# EAGLE library part PIC18F6*J60 (library microchip)
64pin PIC18 with Ethernet
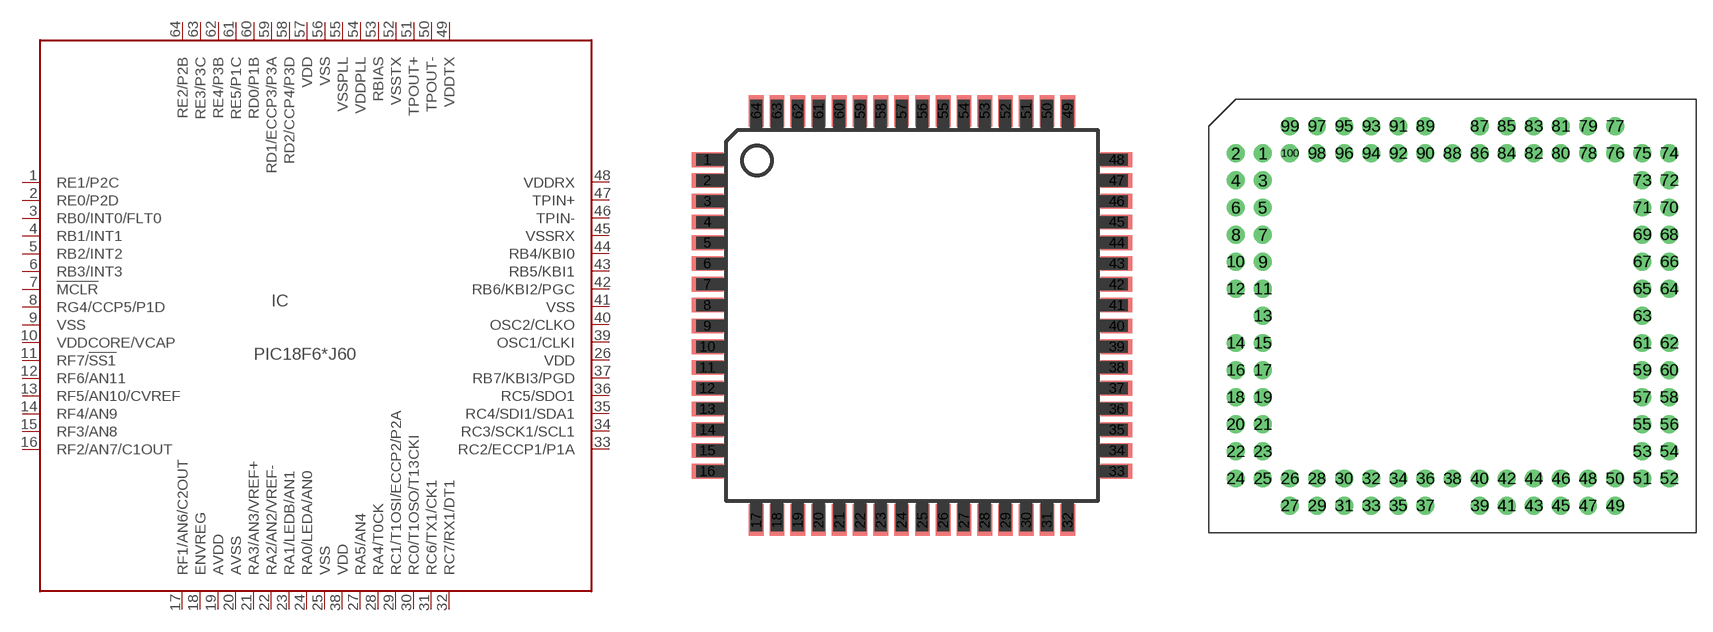
[diagram p25: symbol with the pads of TQFP64; footprints TQFP64, ICB-020]

Designator prefix IC

## PIC18F66J60TQFP, PIC18F67J60TQFP  [TQFP64]
1  RE1/P2C
2  RE0/P2D
3  RB0/INT0/FLT0
4  RB1/INT1
5  RB2/INT2
6  RB3/INT3
7  !MCLR  in
8  RG4/CCP5/P1D
9  VSS  pwr
10  VDDCORE/VCAP  pwr
11  RF7/!SS1
12  RF6/AN11
13  RF5/AN10/CVREF
14  RF4/AN9
15  RF3/AN8
16  RF2/AN7/C1OUT
17  RF1/AN6/C2OUT
18  ENVREG  in
19  AVDD  pwr
20  AVSS  pwr
21  RA3/AN3/VREF+
22  RA2/AN2/VREF-
23  RA1/LEDB/AN1
24  RA0/LEDA/AN0
25  VSS  pwr
26  VDD  pwr
27  RA5/AN4
28  RA4/T0CK
29  RC1/T1OSI/ECCP2/P2A
30  RC0/T1OSO/T13CKI
31  RC6/TX1/CK1
32  RC7/RX1/DT1
33  RC2/ECCP1/P1A
34  RC3/SCK1/SCL1
35  RC4/SDI1/SDA1
36  RC5/SDO1
37  RB7/KBI3/PGD
38  VDD  pwr
39  OSC1/CLKI  in
40  OSC2/CLKO  out
41  VSS  pwr
42  RB6/KBI2/PGC
43  RB5/KBI1
44  RB4/KBI0
45  VSSRX
46  TPIN-
47  TPIN+
48  VDDRX
49  VDDTX
50  TPOUT-
51  TPOUT+
52  VSSTX
53  RBIAS
54  VDDPLL
55  VSSPLL
56  VSS  pwr
57  VDD  pwr
58  RD2/CCP4/P3D
59  RD1/ECCP3/P3A
60  RD0/P1B
61  RE5/P1C
62  RE4/P3B
63  RE3/P3C
64  RE2/P2B

## PIC18F66J60ICB20, PIC18F67J60ICB20  [ICB-020]
6  RE1/P2C
7  RE0/P2D
8  RB0/INT0/FLT0
9  RB1/INT1
10  RB2/INT2
11  RB3/INT3
12  !MCLR  in
13  RG4/CCP5/P1D
14  VSS  pwr
15  VDDCORE/VCAP  pwr
16  RF7/!SS1
17  RF6/AN11
18  RF5/AN10/CVREF
19  RF4/AN9
20  RF3/AN8
21  RF2/AN7/C1OUT
31  RF1/AN6/C2OUT
32  ENVREG  in
33  AVDD  pwr
34  AVSS  pwr
35  RA3/AN3/VREF+
36  RA2/AN2/VREF-
37  RA1/LEDB/AN1
38  RA0/LEDA/AN0
39  VSS  pwr
40  VDD  pwr
41  RA5/AN4
42  RA4/T0CK
43  RC1/T1OSI/ECCP2/P2A
44  RC0/T1OSO/T13CKI
45  RC6/TX1/CK1
46  RC7/RX1/DT1
55  RC2/ECCP1/P1A
56  RC3/SCK1/SCL1
57  RC4/SDI1/SDA1
58  RC5/SDO1
59  RB7/KBI3/PGD
60  VDD  pwr
61  OSC1/CLKI  in
62  OSC2/CLKO  out
63  VSS  pwr
64  RB6/KBI2/PGC
65  RB5/KBI1
66  RB4/KBI0
67  VSSRX
68  TPIN-
69  TPIN+
70  VDDRX
80  VDDTX
81  TPOUT-
82  TPOUT+
83  VSSTX
84  RBIAS
85  VDDPLL
86  VSSPLL
87  VSS  pwr
88  VDD  pwr
89  RD2/CCP4/P3D
90  RD1/ECCP3/P3A
91  RD0/P1B
92  RE5/P1C
93  RE4/P3B
94  RE3/P3C
95  RE2/P2B

## PIC18F6J60ICB64  [ICB-020-64]
1  RE1/P2C
2  RE0/P2D
3  RB0/INT0/FLT0
4  RB1/INT1
5  RB2/INT2
6  RB3/INT3
7  !MCLR  in
8  RG4/CCP5/P1D
9  VSS  pwr
10  VDDCORE/VCAP  pwr
11  RF7/!SS1
12  RF6/AN11
13  RF5/AN10/CVREF
14  RF4/AN9
15  RF3/AN8
16  RF2/AN7/C1OUT
17  RF1/AN6/C2OUT
18  ENVREG  in
19  AVDD  pwr
20  AVSS  pwr
21  RA3/AN3/VREF+
22  RA2/AN2/VREF-
23  RA1/LEDB/AN1
24  RA0/LEDA/AN0
25  VSS  pwr
26  VDD  pwr
27  RA5/AN4
28  RA4/T0CK
29  RC1/T1OSI/ECCP2/P2A
30  RC0/T1OSO/T13CKI
31  RC6/TX1/CK1
32  RC7/RX1/DT1
33  RC2/ECCP1/P1A
34  RC3/SCK1/SCL1
35  RC4/SDI1/SDA1
36  RC5/SDO1
37  RB7/KBI3/PGD
38  VDD  pwr
39  OSC1/CLKI  in
40  OSC2/CLKO  out
41  VSS  pwr
42  RB6/KBI2/PGC
43  RB5/KBI1
44  RB4/KBI0
45  VSSRX
46  TPIN-
47  TPIN+
48  VDDRX
49  VDDTX
50  TPOUT-
51  TPOUT+
52  VSSTX
53  RBIAS
54  VDDPLL
55  VSSPLL
56  VSS  pwr
57  VDD  pwr
58  RD2/CCP4/P3D
59  RD1/ECCP3/P3A
60  RD0/P1B
61  RE5/P1C
62  RE4/P3B
63  RE3/P3C
64  RE2/P2B

## Footprint TQFP64 (pad centres in mm)
Thin Quad Flat Pack
smd 1.194 x 0.559: 1 -7.76,5.905; 2 -7.76,5.118; 3 -7.76,4.331; 4 -7.76,3.543; 5 -7.76,2.756; 6 -7.76,1.968; 7 -7.76,1.181; 8 -7.76,0.394; 9 -7.76,-0.394; 10 -7.76,-1.181; 11 -7.76,-1.968; 12 -7.76,-2.756; 13 -7.76,-3.543; 14 -7.76,-4.331; 15 -7.76,-5.118; 16 -7.76,-5.905; 33 7.76,-5.905; 34 7.76,-5.118; 35 7.76,-4.331; 36 7.76,-3.543; 37 7.76,-2.756; 38 7.76,-1.968; 39 7.76,-1.181; 40 7.76,-0.394; 41 7.76,0.394; 42 7.76,1.181; 43 7.76,1.968; 44 7.76,2.756; 45 7.76,3.543; 46 7.76,4.331; 47 7.76,5.118; 48 7.76,5.905
smd 0.559 x 1.194: 17 -5.905,-7.76; 18 -5.118,-7.76; 19 -4.331,-7.76; 20 -3.543,-7.76; 21 -2.756,-7.76; 22 -1.968,-7.76; 23 -1.181,-7.76; 24 -0.394,-7.76; 25 0.394,-7.76; 26 1.181,-7.76; 27 1.968,-7.76; 28 2.756,-7.76; 29 3.543,-7.76; 30 4.331,-7.76; 31 5.118,-7.76; 32 5.905,-7.76; 49 5.905,7.76; 50 5.118,7.76; 51 4.331,7.76; 52 3.543,7.76; 53 2.756,7.76; 54 1.968,7.76; 55 1.181,7.76; 56 0.394,7.76; 57 -0.394,7.76; 58 -1.181,7.76; 59 -1.968,7.76; 60 -2.756,7.76; 61 -3.543,7.76; 62 -4.331,7.76; 63 -5.118,7.76; 64 -5.905,7.76

## Footprint ICB-020 (pad centres in mm)
drill 0.5 pad 1.676 round: 1 -17.78,15.24; 2 -20.32,15.24; 3 -17.78,12.7; 4 -20.32,12.7; 5 -17.78,10.16; 6 -20.32,10.16; 7 -17.78,7.62; 8 -20.32,7.62; 9 -17.78,5.08; 10 -20.32,5.08; 11 -17.78,2.54; 12 -20.32,2.54; 13 -17.78,0; 14 -20.32,-2.54; 15 -17.78,-2.54; 16 -20.32,-5.08; 17 -17.78,-5.08; 18 -20.32,-7.62; 19 -17.78,-7.62; 20 -20.32,-10.16; 21 -17.78,-10.16; 22 -20.32,-12.7; 23 -17.78,-12.7; 24 -20.32,-15.24; 25 -17.78,-15.24; 26 -15.24,-15.24; 27 -15.24,-17.78; 28 -12.7,-15.24; 29 -12.7,-17.78; 30 -10.16,-15.24; 31 -10.16,-17.78; 32 -7.62,-15.24; 33 -7.62,-17.78; 34 -5.08,-15.24; 35 -5.08,-17.78; 36 -2.54,-15.24; 37 -2.54,-17.78; 38 0,-15.24; 39 2.54,-17.78; 40 2.54,-15.24; 41 5.08,-17.78; 42 5.08,-15.24; 43 7.62,-17.78; 44 7.62,-15.24; 45 10.16,-17.78; 46 10.16,-15.24; 47 12.7,-17.78; 48 12.7,-15.24; 49 15.24,-17.78; 50 15.24,-15.24; 51 17.78,-15.24; 52 20.32,-15.24; 53 17.78,-12.7; 54 20.32,-12.7; 55 17.78,-10.16; 56 20.32,-10.16; 57 17.78,-7.62; 58 20.32,-7.62; 59 17.78,-5.08; 60 20.32,-5.08; 61 17.78,-2.54; 62 20.32,-2.54; 63 17.78,0; 64 20.32,2.54; 65 17.78,2.54; 66 20.32,5.08; 67 17.78,5.08; 68 20.32,7.62; 69 17.78,7.62; 70 20.32,10.16; 71 17.78,10.16; 72 20.32,12.7; 73 17.78,12.7; 74 20.32,15.24; 75 17.78,15.24; 76 15.24,15.24; 77 15.24,17.78; 78 12.7,15.24; 79 12.7,17.78; 80 10.16,15.24; 81 10.16,17.78; 82 7.62,15.24; 83 7.62,17.78; 84 5.08,15.24; 85 5.08,17.78; 86 2.54,15.24; 87 2.54,17.78; 88 0,15.24; 89 -2.54,17.78; 90 -2.54,15.24; 91 -5.08,17.78; 92 -5.08,15.24; 93 -7.62,17.78; 94 -7.62,15.24; 95 -10.16,17.78; 96 -10.16,15.24; 97 -12.7,17.78; 98 -12.7,15.24; 99 -15.24,17.78; 100 -15.24,15.24

## Footprint ICB-020-64 (pad centres in mm)
drill 0.5 pad 1.676 round: 1 -20.32,10.16; 2 -17.78,7.62; 3 -20.32,7.62; 4 -17.78,5.08; 5 -20.32,5.08; 6 -17.78,2.54; 7 -20.32,2.54; 8 -17.78,0; 9 -20.32,-2.54; 10 -17.78,-2.54; 11 -20.32,-5.08; 12 -17.78,-5.08; 13 -20.32,-7.62; 14 -17.78,-7.62; 15 -20.32,-10.16; 16 -17.78,-10.16; 17 -10.16,-17.78; 18 -7.62,-15.24; 19 -7.62,-17.78; 20 -5.08,-15.24; 21 -5.08,-17.78; 22 -2.54,-15.24; 23 -2.54,-17.78; 24 0,-15.24; 25 2.54,-17.78; 26 2.54,-15.24; 27 5.08,-17.78; 28 5.08,-15.24; 29 7.62,-17.78; 30 7.62,-15.24; 31 10.16,-17.78; 32 10.16,-15.24; 33 17.78,-10.16; 34 20.32,-10.16; 35 17.78,-7.62; 36 20.32,-7.62; 37 17.78,-5.08; 38 20.32,-5.08; 39 17.78,-2.54; 40 20.32,-2.54; 41 17.78,0; 42 20.32,2.54; 43 17.78,2.54; 44 20.32,5.08; 45 17.78,5.08; 46 20.32,7.62; 47 17.78,7.62; 48 20.32,10.16; 49 10.16,15.24; 50 10.16,17.78; 51 7.62,15.24; 52 7.62,17.78; 53 5.08,15.24; 54 5.08,17.78; 55 2.54,15.24; 56 2.54,17.78; 57 0,15.24; 58 -2.54,17.78; 59 -2.54,15.24; 60 -5.08,17.78; 61 -5.08,15.24; 62 -7.62,17.78; 63 -7.62,15.24; 64 -10.16,17.78
drill 0.5 pad 1.422 square: P$1 -17.78,10.16; P$2 -10.16,15.24; P$3 17.78,10.16; P$4 -10.16,-15.24